# EAGLE library part PIC_ISP (library FaBo-PIN)
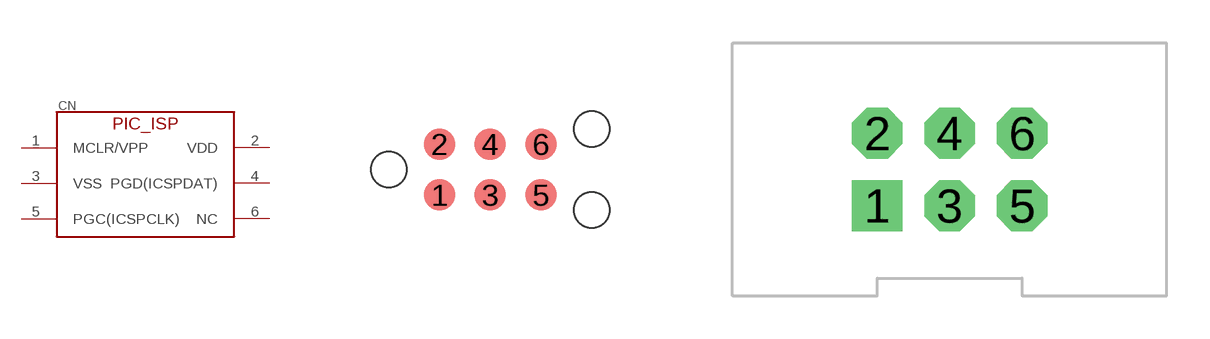
[diagram p15: symbol with the pads of TC2030; footprints TC2030, BOX_2X3]

Designator prefix CN

## PIC_ISP-TC  [TC2030]
1  MCLR/VPP
2  VDD
3  VSS
4  PGD(ICSPDAT)
5  PGC(ICSPCLK)
6  NC

## PIC_ISP-BOX  [BOX_2X3]
Pads as for TC2030

## PIC_ISP-KIT  [PIN_1X6]
Pads as for TC2030

## Footprint TC2030 (pad centres in mm)
smd 0.787 x 0.787: 1 -1.27,-0.635; 2 -1.27,0.635; 3 0,-0.635; 4 0,0.635; 5 1.27,-0.635; 6 1.27,0.635
hole 0.889 at -2.54,0
hole 0.889 at 2.54,-1.016
hole 0.889 at 2.54,1.016

## Footprint BOX_2X3 (pad centres in mm)
drill 1.1 pad 1.778 square: 1 -2.54,-1.27
drill 1.1 pad 1.778 octagon: 2 -2.54,1.27; 3 0,-1.27; 4 0,1.27; 5 2.54,-1.27; 6 2.54,1.27

## Footprint PIN_1X6 (pad centres in mm)
drill 1.1 pad 1.778 square: 1 -6.35,0
drill 1.1 pad 1.9 octagon: 2 -3.81,0; 3 -1.27,0; 4 1.27,0; 5 3.81,0; 6 6.35,0